# Altium footprint library PcbLib1.PcbLib: 11 footprints
Each footprint in its own frame and in the unit in brackets; x right, y up, seen from the top. Pads: shape width x height; smd on the part's side, far side on the other; paste and mask are expansions set on the pad; w line width, h text height; cw(c..) or ccw(c..) is an arc to the next point about the centre after c.
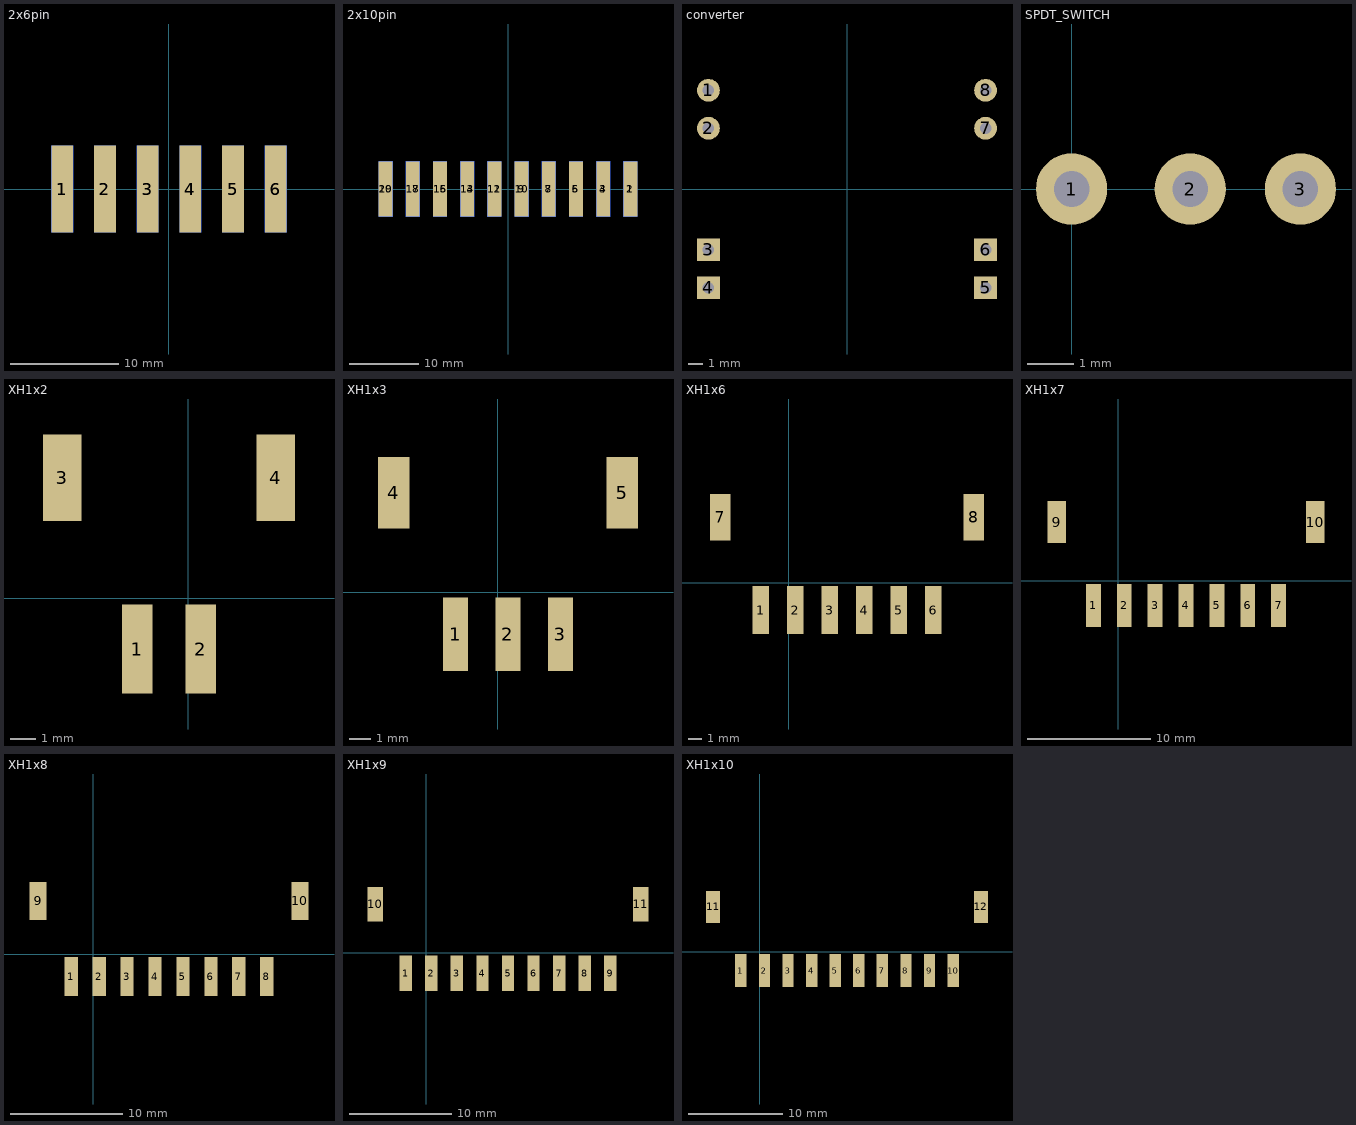
[diagram p0: the footprints below, top view; thin cyan lines are the x and y axes]

## 2x6pin [mm]
pads (12):
  rect 2x8 smd: 1(-9.85,0) 2(-5.91,0) 3(-1.97,0) 4(1.97,0) 5(5.91,0) 6(9.85,0)
  rect 2x8 smd far side: 1(-9.85,0) 2(-5.91,0) 3(-1.97,0) 4(1.97,0) 5(5.91,0) 6(9.85,0)

## 2x10pin [mm]
pads (20):
  rect 2x8 smd far side: 1(17.73,0) 3(13.79,0) 5(9.85,0) 7(5.91,0) 9(1.97,0) 11(-1.97,0) 13(-5.91,0) 15(-9.85,0) 17(-13.79,0) 19(-17.73,0)
  rect 2x8 smd: 2(17.73,0) 4(13.79,0) 6(9.85,0) 8(5.91,0) 10(1.97,0) 12(-1.97,0) 14(-5.91,0) 16(-9.85,0) 18(-13.79,0) 20(-17.73,0)

## converter [mil]
pads (8):
  round 60 hole 30: 1(-365,260) 2(-365,160) 7(365,160) 8(365,260)
  rect 60x60 hole 30: 3(-365,-160) 4(-365,-260) 5(365,-260) 6(365,-160)

## SPDT_SWITCH [mil]
pads (3):
  round 60 hole 30: 1(0,0) 2(100,0) 3(192.91,0)

## XH1x2 [mm]
pads (4):
  rect 1.2x3.5 smd: 1(-2,-2) 2(0.5,-2)
  rect 1.5x3.4 smd: 3(-4.95,4.75) 4(3.45,4.75)

## XH1x3 [mm]
pads (5):
  rect 1.2x3.5 smd: 1(-2,-2) 2(0.5,-2) 3(3,-2)
  rect 1.5x3.4 smd: 4(-4.95,4.75) 5(5.95,4.75)

## XH1x6 [mm]
pads (8):
  rect 1.2x3.5 smd: 1(-2,-2) 2(0.5,-2) 3(3,-2) 4(5.5,-2) 5(8,-2) 6(10.5,-2)
  rect 1.5x3.4 smd: 7(-4.95,4.75) 8(13.45,4.75)

## XH1x7 [mm]
pads (9):
  rect 1.2x3.5 smd: 1(-2,-2) 2(0.5,-2) 3(3,-2) 4(5.5,-2) 5(8,-2) 6(10.5,-2) 7(13,-2)
  rect 1.5x3.4 smd: 9(-4.95,4.75) 10(15.95,4.75)

## XH1x8 [mm]
pads (10):
  rect 1.2x3.5 smd: 1(-2,-2) 2(0.5,-2) 3(3,-2) 4(5.5,-2) 5(8,-2) 6(10.5,-2) 7(13,-2) 8(15.5,-2)
  rect 1.5x3.4 smd: 9(-4.95,4.75) 10(18.45,4.75)

## XH1x9 [mm]
pads (11):
  rect 1.2x3.5 smd: 1(-2,-2) 2(0.5,-2) 3(3,-2) 4(5.5,-2) 5(8,-2) 6(10.5,-2) 7(13,-2) 8(15.5,-2) 9(18,-2)
  rect 1.5x3.4 smd: 10(-4.95,4.75) 11(20.95,4.75)

## XH1x10 [mm]
pads (12):
  rect 1.2x3.5 smd: 1(-2,-2) 2(0.5,-2) 3(3,-2) 4(5.5,-2) 5(8,-2) 6(10.5,-2) 7(13,-2) 8(15.5,-2) 9(18,-2) 10(20.5,-2)
  rect 1.5x3.4 smd: 11(-4.95,4.75) 12(23.45,4.75)